# Altium footprint library ESP32-H2FH4.PcbLib: 3 footprints
Each footprint in its own frame and in the unit in brackets; x right, y up, seen from the top. Pads: shape width x height; smd on the part's side, far side on the other; paste and mask are expansions set on the pad; w line width, h text height; cw(c..) or ccw(c..) is an arc to the next point about the centre after c.
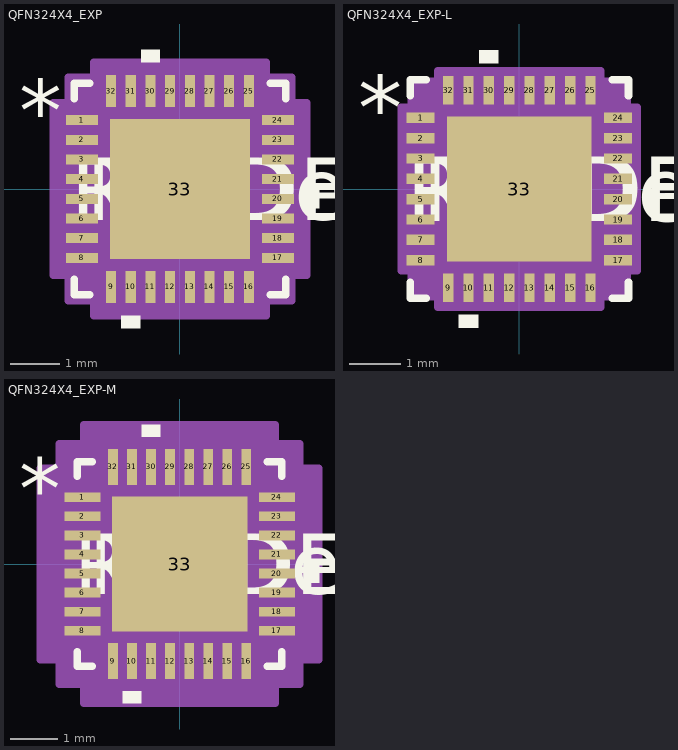
[diagram p0: the footprints below, top view; thin cyan lines are the x and y axes]

## QFN324X4_EXP [mm]
pads (33):
  rect 0.656x0.204 smd paste+0 mask+0: 1(-1.991,1.4) 2(-1.991,1) 3(-1.991,0.6) 4(-1.991,0.2) 5(-1.991,-0.2) 6(-1.991,-0.6) 7(-1.991,-1) 8(-1.991,-1.4) 17(1.991,-1.4) 18(1.991,-1) 19(1.991,-0.6) 20(1.991,-0.2) 21(1.991,0.2) 22(1.991,0.6) 23(1.991,1) 24(1.991,1.4)
  rect 0.204x0.656 smd paste+0 mask+0: 9(-1.4,-1.991) 10(-1,-1.991) 11(-0.6,-1.991) 12(-0.2,-1.991) 13(0.2,-1.991) 14(0.6,-1.991) 15(1,-1.991) 16(1.4,-1.991) 25(1.4,1.991) 26(1,1.991) 27(0.6,1.991) 28(0.2,1.991) 29(-0.2,1.991) 30(-0.6,1.991) 31(-1,1.991) 32(-1.4,1.991)
  rect 2.845x2.845 smd paste-1.422 mask+0: 33(0,0)
Top Overlay:
  region: -0.81,-2.573 -1.191,-2.573 -1.191,-2.827 -0.81,-2.827
  region: 2.573,-0.009 2.827,-0.009 2.827,-0.39 2.573,-0.39
  region: -0.409,2.573 -0.79,2.573 -0.79,2.827 -0.409,2.827
  lines w0.152: -2.146,-1.835 -2.146,-2.146 -1.835,-2.146 ; -2.146,1.835 -2.146,2.146 -1.835,2.146 ; 1.835,-2.146 2.146,-2.146 2.146,-1.835 ; 1.835,2.146 2.146,2.146 2.146,1.835
  text "*" at -3.272,0.965 h1.27
  text "RefDes" at -1.905,-0.635 h1.27
  text "REFDES" at -2.222,-0.635 h1.27
Top Paste:
  region: -0.1,1.322 -1.322,1.322 -1.322,0.1 -0.1,0.1
  region: -0.1,-0.1 -1.322,-0.1 -1.322,-1.322 -0.1,-1.322
  region: 1.322,1.322 0.1,1.322 0.1,0.1 1.322,0.1
  region: 1.322,-0.1 0.1,-0.1 0.1,-1.322 1.322,-1.322
Mechanical 13:
  lines w0.025: -2.019,0.749 -0.749,2.019 ; -2.019,-2.019 2.019,-2.019 ; -2.019,-2.019 -2.019,2.019 ; -2.019,-2.019 -2.019,-2.019 ; -2.019,-1.527 -2.019,-1.273 ; -2.019,-1.527 -2.019,-1.273 ; -2.019,-1.527 -2.019,-1.527 ; -2.019,-1.273 -2.019,-1.273 ; -2.019,-1.127 -2.019,-0.873 ; -2.019,-1.127 -2.019,-0.873 ; -2.019,-1.127 -2.019,-1.127 ; -2.019,-0.873 -2.019,-0.873 ; -2.019,-0.727 -2.019,-0.473 ; -2.019,-0.727 -2.019,-0.473 ; -2.019,-0.727 -2.019,-0.727 ; -2.019,-0.473 -2.019,-0.473 ; -2.019,-0.327 -2.019,-0.073 ; -2.019,-0.327 -2.019,-0.073 ; -2.019,-0.327 -2.019,-0.327 ; -2.019,-0.073 -2.019,-0.073 ; -2.019,0.073 -2.019,0.327 ; -2.019,0.073 -2.019,0.327 ; -2.019,0.073 -2.019,0.073 ; -2.019,0.327 -2.019,0.327 ; -2.019,0.473 -2.019,0.727 ; -2.019,0.473 -2.019,0.727 ; -2.019,0.473 -2.019,0.473 ; -2.019,0.727 -2.019,0.727 ; -2.019,0.873 -2.019,1.127 ; -2.019,0.873 -2.019,1.127 ; -2.019,0.873 -2.019,0.873 ; -2.019,1.127 -2.019,1.127 ; -2.019,1.273 -2.019,1.527 ; -2.019,1.273 -2.019,1.527 ; -2.019,1.273 -2.019,1.273 ; -2.019,1.527 -2.019,1.527 ; -2.019,2.019 2.019,2.019 ; -2.019,2.019 -2.019,2.019 ; -1.527,-2.019 -1.273,-2.019 ; -1.527,-2.019 -1.527,-2.019 ; -1.527,-2.019 -1.273,-2.019 ; -1.527,2.019 -1.273,2.019 ; -1.527,2.019 -1.273,2.019 ; -1.527,2.019 -1.527,2.019 ; -1.273,-2.019 -1.273,-2.019 ; -1.273,2.019 -1.273,2.019 ; -1.127,-2.019 -0.873,-2.019 ; -1.127,-2.019 -1.127,-2.019 ; -1.127,-2.019 -0.873,-2.019 ; -1.127,2.019 -0.873,2.019 ; -1.127,2.019 -0.873,2.019 ; -1.127,2.019 -1.127,2.019 ; -0.873,-2.019 -0.873,-2.019 ; -0.873,2.019 -0.873,2.019 ; -0.727,-2.019 -0.473,-2.019 ; -0.727,-2.019 -0.727,-2.019 ; -0.727,-2.019 -0.473,-2.019 ; -0.727,2.019 -0.473,2.019 ; -0.727,2.019 -0.473,2.019 ; -0.727,2.019 -0.727,2.019 ; -0.473,-2.019 -0.473,-2.019 ; -0.473,2.019 -0.473,2.019 ; -0.327,-2.019 -0.073,-2.019 ; -0.327,-2.019 -0.327,-2.019 ; -0.327,-2.019 -0.073,-2.019 ; -0.327,2.019 -0.073,2.019 ; -0.327,2.019 -0.073,2.019 ; -0.327,2.019 -0.327,2.019 ; -0.073,-2.019 -0.073,-2.019 ; -0.073,2.019 -0.073,2.019 ; 0.073,-2.019 0.327,-2.019 ; 0.073,-2.019 0.073,-2.019 ; 0.073,-2.019 0.327,-2.019 ; 0.073,2.019 0.327,2.019 ; 0.073,2.019 0.327,2.019 ; 0.073,2.019 0.073,2.019 ; 0.327,-2.019 0.327,-2.019 ; 0.327,2.019 0.327,2.019 ; 0.473,-2.019 0.727,-2.019 ; 0.473,-2.019 0.473,-2.019 ; 0.473,-2.019 0.727,-2.019 ; 0.473,2.019 0.727,2.019 ; 0.473,2.019 0.727,2.019 ; 0.473,2.019 0.473,2.019 ; 0.727,-2.019 0.727,-2.019 ; 0.727,2.019 0.727,2.019 ; 0.873,-2.019 1.127,-2.019 ; 0.873,-2.019 0.873,-2.019 ; 0.873,-2.019 1.127,-2.019 ; 0.873,2.019 1.127,2.019 ; 0.873,2.019 1.127,2.019 ; 0.873,2.019 0.873,2.019 ; 1.127,-2.019 1.127,-2.019 ; 1.127,2.019 1.127,2.019 ; 1.273,-2.019 1.527,-2.019 ; 1.273,-2.019 1.273,-2.019 ; 1.273,-2.019 1.527,-2.019 ; 1.273,2.019 1.527,2.019 ; 1.273,2.019 1.527,2.019 ; 1.273,2.019 1.273,2.019 ; 1.527,-2.019 1.527,-2.019 ; 1.527,2.019 1.527,2.019 ; 2.019,-2.019 2.019,-2.019 ; 2.019,-2.019 2.019,2.019 ; 2.019,-1.527 2.019,-1.273 ; 2.019,-1.527 2.019,-1.527 ; 2.019,-1.527 2.019,-1.273 ; 2.019,-1.273 2.019,-1.273 ; 2.019,-1.127 2.019,-0.873 ; 2.019,-1.127 2.019,-1.127 ; 2.019,-1.127 2.019,-0.873 ; 2.019,-0.873 2.019,-0.873 ; 2.019,-0.727 2.019,-0.473 ; 2.019,-0.727 2.019,-0.727 ; 2.019,-0.727 2.019,-0.473 ; 2.019,-0.473 2.019,-0.473 ; 2.019,-0.327 2.019,-0.073 ; 2.019,-0.327 2.019,-0.327 ; 2.019,-0.327 2.019,-0.073 ; 2.019,-0.073 2.019,-0.073 ; 2.019,0.073 2.019,0.327 ; 2.019,0.073 2.019,0.073 ; 2.019,0.073 2.019,0.327 ; 2.019,0.327 2.019,0.327 ; 2.019,0.473 2.019,0.727 ; 2.019,0.473 2.019,0.473 ; 2.019,0.473 2.019,0.727 ; 2.019,0.727 2.019,0.727 ; 2.019,0.873 2.019,1.127 ; 2.019,0.873 2.019,0.873 ; 2.019,0.873 2.019,1.127 ; 2.019,1.127 2.019,1.127 ; 2.019,1.273 2.019,1.527 ; 2.019,1.273 2.019,1.273 ; 2.019,1.273 2.019,1.527 ; 2.019,1.527 2.019,1.527 ; 2.019,2.019 2.019,2.019
  text "*" at -1.981,0.965 h1.27
  text "RefDes2" at -2.222,-0.635 h1.27
Mechanical 15:
  region: -1.756,-2.273 -2.273,-2.273 -2.273,-1.756 -2.573,-1.756 -2.573,1.756 -2.273,1.756 -2.273,2.273 -1.756,2.273 -1.756,2.573 1.756,2.573 1.756,2.273 2.273,2.273 2.273,1.756 2.573,1.756 2.573,-1.756 2.273,-1.756 2.273,-2.273 1.756,-2.273 1.756,-2.573 -1.756,-2.573
  lines w0.152: -2.573,-1.756 -2.273,-1.756 -2.273,-2.273 -1.756,-2.273 -1.756,-2.573 1.756,-2.573 1.756,-2.273 2.273,-2.273 2.273,-1.756 2.573,-1.756 2.573,1.756 2.273,1.756 2.273,2.273 1.756,2.273 1.756,2.573 -1.756,2.573 -1.756,2.273 -2.273,2.273 -2.273,1.756 -2.573,1.756 -2.573,-1.756
3D body "QFN324X4_EXP.step": height 0.89, standoff 0, extent -2.019,-2.019 2.019,2.019

## QFN324X4_EXP-L [mm]
pads (33):
  rect 0.556x0.204 smd paste+0 mask+0: 1(-1.941,1.4) 2(-1.941,1) 3(-1.941,0.6) 4(-1.941,0.2) 5(-1.941,-0.2) 6(-1.941,-0.6) 7(-1.941,-1) 8(-1.941,-1.4) 17(1.941,-1.4) 18(1.941,-1) 19(1.941,-0.6) 20(1.941,-0.2) 21(1.941,0.2) 22(1.941,0.6) 23(1.941,1) 24(1.941,1.4)
  rect 0.204x0.556 smd paste+0 mask+0: 9(-1.4,-1.941) 10(-1,-1.941) 11(-0.6,-1.941) 12(-0.2,-1.941) 13(0.2,-1.941) 14(0.6,-1.941) 15(1,-1.941) 16(1.4,-1.941) 25(1.4,1.941) 26(1,1.941) 27(0.6,1.941) 28(0.2,1.941) 29(-0.2,1.941) 30(-0.6,1.941) 31(-1,1.941) 32(-1.4,1.941)
  rect 2.845x2.845 smd paste-1.422 mask+0: 33(0,0)
Top Overlay:
  region: -0.81,-2.473 -1.191,-2.473 -1.191,-2.727 -0.81,-2.727
  region: 2.473,-0.009 2.727,-0.009 2.727,-0.39 2.473,-0.39
  region: -0.409,2.473 -0.79,2.473 -0.79,2.727 -0.409,2.727
  lines w0.152: -2.146,-1.835 -2.146,-2.146 -1.835,-2.146 ; -2.146,1.835 -2.146,2.146 -1.835,2.146 ; 1.835,-2.146 2.146,-2.146 2.146,-1.835 ; 1.835,2.146 2.146,2.146 2.146,1.835
  text "*" at -3.172,0.965 h1.27
  text "RefDes" at -1.905,-0.635 h1.27
  text "REFDES" at -2.222,-0.635 h1.27
Top Paste:
  region: -0.1,1.322 -1.322,1.322 -1.322,0.1 -0.1,0.1
  region: -0.1,-0.1 -1.322,-0.1 -1.322,-1.322 -0.1,-1.322
  region: 1.322,1.322 0.1,1.322 0.1,0.1 1.322,0.1
  region: 1.322,-0.1 0.1,-0.1 0.1,-1.322 1.322,-1.322
Mechanical 13:
  lines w0.025: -2.019,0.749 -0.749,2.019 ; -2.019,-2.019 2.019,-2.019 ; -2.019,-2.019 -2.019,2.019 ; -2.019,-2.019 -2.019,-2.019 ; -2.019,-1.527 -2.019,-1.273 ; -2.019,-1.527 -2.019,-1.273 ; -2.019,-1.527 -2.019,-1.527 ; -2.019,-1.273 -2.019,-1.273 ; -2.019,-1.127 -2.019,-0.873 ; -2.019,-1.127 -2.019,-0.873 ; -2.019,-1.127 -2.019,-1.127 ; -2.019,-0.873 -2.019,-0.873 ; -2.019,-0.727 -2.019,-0.473 ; -2.019,-0.727 -2.019,-0.473 ; -2.019,-0.727 -2.019,-0.727 ; -2.019,-0.473 -2.019,-0.473 ; -2.019,-0.327 -2.019,-0.073 ; -2.019,-0.327 -2.019,-0.073 ; -2.019,-0.327 -2.019,-0.327 ; -2.019,-0.073 -2.019,-0.073 ; -2.019,0.073 -2.019,0.327 ; -2.019,0.073 -2.019,0.327 ; -2.019,0.073 -2.019,0.073 ; -2.019,0.327 -2.019,0.327 ; -2.019,0.473 -2.019,0.727 ; -2.019,0.473 -2.019,0.727 ; -2.019,0.473 -2.019,0.473 ; -2.019,0.727 -2.019,0.727 ; -2.019,0.873 -2.019,1.127 ; -2.019,0.873 -2.019,1.127 ; -2.019,0.873 -2.019,0.873 ; -2.019,1.127 -2.019,1.127 ; -2.019,1.273 -2.019,1.527 ; -2.019,1.273 -2.019,1.527 ; -2.019,1.273 -2.019,1.273 ; -2.019,1.527 -2.019,1.527 ; -2.019,2.019 2.019,2.019 ; -2.019,2.019 -2.019,2.019 ; -1.527,-2.019 -1.273,-2.019 ; -1.527,-2.019 -1.527,-2.019 ; -1.527,-2.019 -1.273,-2.019 ; -1.527,2.019 -1.273,2.019 ; -1.527,2.019 -1.273,2.019 ; -1.527,2.019 -1.527,2.019 ; -1.273,-2.019 -1.273,-2.019 ; -1.273,2.019 -1.273,2.019 ; -1.127,-2.019 -0.873,-2.019 ; -1.127,-2.019 -1.127,-2.019 ; -1.127,-2.019 -0.873,-2.019 ; -1.127,2.019 -0.873,2.019 ; -1.127,2.019 -0.873,2.019 ; -1.127,2.019 -1.127,2.019 ; -0.873,-2.019 -0.873,-2.019 ; -0.873,2.019 -0.873,2.019 ; -0.727,-2.019 -0.473,-2.019 ; -0.727,-2.019 -0.727,-2.019 ; -0.727,-2.019 -0.473,-2.019 ; -0.727,2.019 -0.473,2.019 ; -0.727,2.019 -0.473,2.019 ; -0.727,2.019 -0.727,2.019 ; -0.473,-2.019 -0.473,-2.019 ; -0.473,2.019 -0.473,2.019 ; -0.327,-2.019 -0.073,-2.019 ; -0.327,-2.019 -0.327,-2.019 ; -0.327,-2.019 -0.073,-2.019 ; -0.327,2.019 -0.073,2.019 ; -0.327,2.019 -0.073,2.019 ; -0.327,2.019 -0.327,2.019 ; -0.073,-2.019 -0.073,-2.019 ; -0.073,2.019 -0.073,2.019 ; 0.073,-2.019 0.327,-2.019 ; 0.073,-2.019 0.073,-2.019 ; 0.073,-2.019 0.327,-2.019 ; 0.073,2.019 0.327,2.019 ; 0.073,2.019 0.327,2.019 ; 0.073,2.019 0.073,2.019 ; 0.327,-2.019 0.327,-2.019 ; 0.327,2.019 0.327,2.019 ; 0.473,-2.019 0.727,-2.019 ; 0.473,-2.019 0.473,-2.019 ; 0.473,-2.019 0.727,-2.019 ; 0.473,2.019 0.727,2.019 ; 0.473,2.019 0.727,2.019 ; 0.473,2.019 0.473,2.019 ; 0.727,-2.019 0.727,-2.019 ; 0.727,2.019 0.727,2.019 ; 0.873,-2.019 1.127,-2.019 ; 0.873,-2.019 0.873,-2.019 ; 0.873,-2.019 1.127,-2.019 ; 0.873,2.019 1.127,2.019 ; 0.873,2.019 1.127,2.019 ; 0.873,2.019 0.873,2.019 ; 1.127,-2.019 1.127,-2.019 ; 1.127,2.019 1.127,2.019 ; 1.273,-2.019 1.527,-2.019 ; 1.273,-2.019 1.273,-2.019 ; 1.273,-2.019 1.527,-2.019 ; 1.273,2.019 1.527,2.019 ; 1.273,2.019 1.527,2.019 ; 1.273,2.019 1.273,2.019 ; 1.527,-2.019 1.527,-2.019 ; 1.527,2.019 1.527,2.019 ; 2.019,-2.019 2.019,-2.019 ; 2.019,-2.019 2.019,2.019 ; 2.019,-1.527 2.019,-1.273 ; 2.019,-1.527 2.019,-1.527 ; 2.019,-1.527 2.019,-1.273 ; 2.019,-1.273 2.019,-1.273 ; 2.019,-1.127 2.019,-0.873 ; 2.019,-1.127 2.019,-1.127 ; 2.019,-1.127 2.019,-0.873 ; 2.019,-0.873 2.019,-0.873 ; 2.019,-0.727 2.019,-0.473 ; 2.019,-0.727 2.019,-0.727 ; 2.019,-0.727 2.019,-0.473 ; 2.019,-0.473 2.019,-0.473 ; 2.019,-0.327 2.019,-0.073 ; 2.019,-0.327 2.019,-0.327 ; 2.019,-0.327 2.019,-0.073 ; 2.019,-0.073 2.019,-0.073 ; 2.019,0.073 2.019,0.327 ; 2.019,0.073 2.019,0.073 ; 2.019,0.073 2.019,0.327 ; 2.019,0.327 2.019,0.327 ; 2.019,0.473 2.019,0.727 ; 2.019,0.473 2.019,0.473 ; 2.019,0.473 2.019,0.727 ; 2.019,0.727 2.019,0.727 ; 2.019,0.873 2.019,1.127 ; 2.019,0.873 2.019,0.873 ; 2.019,0.873 2.019,1.127 ; 2.019,1.127 2.019,1.127 ; 2.019,1.273 2.019,1.527 ; 2.019,1.273 2.019,1.273 ; 2.019,1.273 2.019,1.527 ; 2.019,1.527 2.019,1.527 ; 2.019,2.019 2.019,2.019
  text "*" at -1.981,0.965 h1.27
  text "RefDes2" at -2.222,-0.635 h1.27
Mechanical 15:
  region: -1.604,-2.121 -2.121,-2.121 -2.121,-1.604 -2.321,-1.604 -2.321,1.604 -2.121,1.604 -2.121,2.121 -1.604,2.121 -1.604,2.321 1.604,2.321 1.604,2.121 2.121,2.121 2.121,1.604 2.321,1.604 2.321,-1.604 2.121,-1.604 2.121,-2.121 1.604,-2.121 1.604,-2.321 -1.604,-2.321
  lines w0.152: -2.321,-1.604 -2.121,-1.604 -2.121,-2.121 -1.604,-2.121 -1.604,-2.321 1.604,-2.321 1.604,-2.121 2.121,-2.121 2.121,-1.604 2.321,-1.604 2.321,1.604 2.121,1.604 2.121,2.121 1.604,2.121 1.604,2.321 -1.604,2.321 -1.604,2.121 -2.121,2.121 -2.121,1.604 -2.321,1.604 -2.321,-1.604
3D body "QFN324X4_EXP.step": height 0.89, standoff 0, extent -2.019,-2.019 2.019,2.019

## QFN324X4_EXP-M [mm]
pads (33):
  rect 0.756x0.204 smd paste+0 mask+0: 1(-2.041,1.4) 2(-2.041,1) 3(-2.041,0.6) 4(-2.041,0.2) 5(-2.041,-0.2) 6(-2.041,-0.6) 7(-2.041,-1) 8(-2.041,-1.4) 17(2.041,-1.4) 18(2.041,-1) 19(2.041,-0.6) 20(2.041,-0.2) 21(2.041,0.2) 22(2.041,0.6) 23(2.041,1) 24(2.041,1.4)
  rect 0.204x0.756 smd paste+0 mask+0: 9(-1.4,-2.041) 10(-1,-2.041) 11(-0.6,-2.041) 12(-0.2,-2.041) 13(0.2,-2.041) 14(0.6,-2.041) 15(1,-2.041) 16(1.4,-2.041) 25(1.4,2.041) 26(1,2.041) 27(0.6,2.041) 28(0.2,2.041) 29(-0.2,2.041) 30(-0.6,2.041) 31(-1,2.041) 32(-1.4,2.041)
  rect 2.845x2.845 smd paste-1.422 mask+0: 33(0,0)
Top Overlay:
  region: -0.81,-2.673 -1.191,-2.673 -1.191,-2.927 -0.81,-2.927
  region: 2.673,-0.009 2.927,-0.009 2.927,-0.39 2.673,-0.39
  region: -0.409,2.673 -0.79,2.673 -0.79,2.927 -0.409,2.927
  lines w0.152: -2.146,-1.835 -2.146,-2.146 -1.835,-2.146 ; -2.146,1.835 -2.146,2.146 -1.835,2.146 ; 1.835,-2.146 2.146,-2.146 2.146,-1.835 ; 1.835,2.146 2.146,2.146 2.146,1.835
  text "*" at -3.372,0.965 h1.27
  text "RefDes" at -1.905,-0.635 h1.27
  text "REFDES" at -2.222,-0.635 h1.27
Top Paste:
  region: -0.1,1.322 -1.322,1.322 -1.322,0.1 -0.1,0.1
  region: -0.1,-0.1 -1.322,-0.1 -1.322,-1.322 -0.1,-1.322
  region: 1.322,1.322 0.1,1.322 0.1,0.1 1.322,0.1
  region: 1.322,-0.1 0.1,-0.1 0.1,-1.322 1.322,-1.322
Mechanical 13:
  lines w0.025: -2.019,0.749 -0.749,2.019 ; -2.019,-2.019 2.019,-2.019 ; -2.019,-2.019 -2.019,2.019 ; -2.019,-2.019 -2.019,-2.019 ; -2.019,-1.527 -2.019,-1.273 ; -2.019,-1.527 -2.019,-1.273 ; -2.019,-1.527 -2.019,-1.527 ; -2.019,-1.273 -2.019,-1.273 ; -2.019,-1.127 -2.019,-0.873 ; -2.019,-1.127 -2.019,-0.873 ; -2.019,-1.127 -2.019,-1.127 ; -2.019,-0.873 -2.019,-0.873 ; -2.019,-0.727 -2.019,-0.473 ; -2.019,-0.727 -2.019,-0.473 ; -2.019,-0.727 -2.019,-0.727 ; -2.019,-0.473 -2.019,-0.473 ; -2.019,-0.327 -2.019,-0.073 ; -2.019,-0.327 -2.019,-0.073 ; -2.019,-0.327 -2.019,-0.327 ; -2.019,-0.073 -2.019,-0.073 ; -2.019,0.073 -2.019,0.327 ; -2.019,0.073 -2.019,0.327 ; -2.019,0.073 -2.019,0.073 ; -2.019,0.327 -2.019,0.327 ; -2.019,0.473 -2.019,0.727 ; -2.019,0.473 -2.019,0.727 ; -2.019,0.473 -2.019,0.473 ; -2.019,0.727 -2.019,0.727 ; -2.019,0.873 -2.019,1.127 ; -2.019,0.873 -2.019,1.127 ; -2.019,0.873 -2.019,0.873 ; -2.019,1.127 -2.019,1.127 ; -2.019,1.273 -2.019,1.527 ; -2.019,1.273 -2.019,1.527 ; -2.019,1.273 -2.019,1.273 ; -2.019,1.527 -2.019,1.527 ; -2.019,2.019 2.019,2.019 ; -2.019,2.019 -2.019,2.019 ; -1.527,-2.019 -1.273,-2.019 ; -1.527,-2.019 -1.527,-2.019 ; -1.527,-2.019 -1.273,-2.019 ; -1.527,2.019 -1.273,2.019 ; -1.527,2.019 -1.273,2.019 ; -1.527,2.019 -1.527,2.019 ; -1.273,-2.019 -1.273,-2.019 ; -1.273,2.019 -1.273,2.019 ; -1.127,-2.019 -0.873,-2.019 ; -1.127,-2.019 -1.127,-2.019 ; -1.127,-2.019 -0.873,-2.019 ; -1.127,2.019 -0.873,2.019 ; -1.127,2.019 -0.873,2.019 ; -1.127,2.019 -1.127,2.019 ; -0.873,-2.019 -0.873,-2.019 ; -0.873,2.019 -0.873,2.019 ; -0.727,-2.019 -0.473,-2.019 ; -0.727,-2.019 -0.727,-2.019 ; -0.727,-2.019 -0.473,-2.019 ; -0.727,2.019 -0.473,2.019 ; -0.727,2.019 -0.473,2.019 ; -0.727,2.019 -0.727,2.019 ; -0.473,-2.019 -0.473,-2.019 ; -0.473,2.019 -0.473,2.019 ; -0.327,-2.019 -0.073,-2.019 ; -0.327,-2.019 -0.327,-2.019 ; -0.327,-2.019 -0.073,-2.019 ; -0.327,2.019 -0.073,2.019 ; -0.327,2.019 -0.073,2.019 ; -0.327,2.019 -0.327,2.019 ; -0.073,-2.019 -0.073,-2.019 ; -0.073,2.019 -0.073,2.019 ; 0.073,-2.019 0.327,-2.019 ; 0.073,-2.019 0.073,-2.019 ; 0.073,-2.019 0.327,-2.019 ; 0.073,2.019 0.327,2.019 ; 0.073,2.019 0.327,2.019 ; 0.073,2.019 0.073,2.019 ; 0.327,-2.019 0.327,-2.019 ; 0.327,2.019 0.327,2.019 ; 0.473,-2.019 0.727,-2.019 ; 0.473,-2.019 0.473,-2.019 ; 0.473,-2.019 0.727,-2.019 ; 0.473,2.019 0.727,2.019 ; 0.473,2.019 0.727,2.019 ; 0.473,2.019 0.473,2.019 ; 0.727,-2.019 0.727,-2.019 ; 0.727,2.019 0.727,2.019 ; 0.873,-2.019 1.127,-2.019 ; 0.873,-2.019 0.873,-2.019 ; 0.873,-2.019 1.127,-2.019 ; 0.873,2.019 1.127,2.019 ; 0.873,2.019 1.127,2.019 ; 0.873,2.019 0.873,2.019 ; 1.127,-2.019 1.127,-2.019 ; 1.127,2.019 1.127,2.019 ; 1.273,-2.019 1.527,-2.019 ; 1.273,-2.019 1.273,-2.019 ; 1.273,-2.019 1.527,-2.019 ; 1.273,2.019 1.527,2.019 ; 1.273,2.019 1.527,2.019 ; 1.273,2.019 1.273,2.019 ; 1.527,-2.019 1.527,-2.019 ; 1.527,2.019 1.527,2.019 ; 2.019,-2.019 2.019,-2.019 ; 2.019,-2.019 2.019,2.019 ; 2.019,-1.527 2.019,-1.273 ; 2.019,-1.527 2.019,-1.527 ; 2.019,-1.527 2.019,-1.273 ; 2.019,-1.273 2.019,-1.273 ; 2.019,-1.127 2.019,-0.873 ; 2.019,-1.127 2.019,-1.127 ; 2.019,-1.127 2.019,-0.873 ; 2.019,-0.873 2.019,-0.873 ; 2.019,-0.727 2.019,-0.473 ; 2.019,-0.727 2.019,-0.727 ; 2.019,-0.727 2.019,-0.473 ; 2.019,-0.473 2.019,-0.473 ; 2.019,-0.327 2.019,-0.073 ; 2.019,-0.327 2.019,-0.327 ; 2.019,-0.327 2.019,-0.073 ; 2.019,-0.073 2.019,-0.073 ; 2.019,0.073 2.019,0.327 ; 2.019,0.073 2.019,0.073 ; 2.019,0.073 2.019,0.327 ; 2.019,0.327 2.019,0.327 ; 2.019,0.473 2.019,0.727 ; 2.019,0.473 2.019,0.473 ; 2.019,0.473 2.019,0.727 ; 2.019,0.727 2.019,0.727 ; 2.019,0.873 2.019,1.127 ; 2.019,0.873 2.019,0.873 ; 2.019,0.873 2.019,1.127 ; 2.019,1.127 2.019,1.127 ; 2.019,1.273 2.019,1.527 ; 2.019,1.273 2.019,1.273 ; 2.019,1.273 2.019,1.527 ; 2.019,1.527 2.019,1.527 ; 2.019,2.019 2.019,2.019
  text "*" at -1.981,0.965 h1.27
  text "RefDes2" at -2.222,-0.635 h1.27
Mechanical 15:
  region: -2.01,-2.527 -2.527,-2.527 -2.527,-2.01 -2.927,-2.01 -2.927,2.01 -2.527,2.01 -2.527,2.527 -2.01,2.527 -2.01,2.927 2.01,2.927 2.01,2.527 2.527,2.527 2.527,2.01 2.927,2.01 2.927,-2.01 2.527,-2.01 2.527,-2.527 2.01,-2.527 2.01,-2.927 -2.01,-2.927
  lines w0.152: -2.927,-2.01 -2.527,-2.01 -2.527,-2.527 -2.01,-2.527 -2.01,-2.927 2.01,-2.927 2.01,-2.527 2.527,-2.527 2.527,-2.01 2.927,-2.01 2.927,2.01 2.527,2.01 2.527,2.527 2.01,2.527 2.01,2.927 -2.01,2.927 -2.01,2.527 -2.527,2.527 -2.527,2.01 -2.927,2.01 -2.927,-2.01
3D body "QFN324X4_EXP.step": height 0.89, standoff 0, extent -2.019,-2.019 2.019,2.019